# EAGLE library part 1324ПП1 (library microwave)
АЕЯР.431000.760–03 ТУ 1324ПП1 - СВЧ МИС активного широкополосного умножителя частоты на 2 в диапазоне входных рабочих частот до 2,4 ГГц, согласованная по выходу с линией с волновым сопротивлением 50 Ом. Достоинства: ► Диапазон входных частот 0,01-2,4 ГГц ► Диапазон выходных частот 0,02-4,8 ГГц ► Уровень фазовых шумов -136 дБ/Гц ► Однополярное питание +3,3 В ► Ток потребления 1,5 мА ► Диапазон рабочих температур -60…+85 °С Электрические параметры при Uп=+3,3 В, Rн=50 Ом, Т=25 °С, если не указано иного. Параметр, единица измерения Условия 1324ПП1У мин. тип. макс. Диапазон рабочих частот по входу, ГГц Рвх=1мВт(0dBm) 0,3-2,3 0,01-2,4 Диапазон рабочих частот по выходу, ГГц Рвх=1мВт(0dBm) 0,6-4,6 0,02-4,8 Диапазон уровня входной мощности, дБм fвх=2,5 ГГц -12...+6 Уровень фазовых шумов, дБ/Гц отстройка 10 кГц -136 Потери преобразования, дБ fвх=1,3 ГГц 9 15 Подавление гармоник на выходе по отношению к входной мощности, дБ fвх=300 МГц 40 Ток потребления, мА Рвх=-10дБм, fвх=2 ГГц 1,5 2,0 Диапазон рабочих температур, °С -60 +85 Тепловое сопротивление «переход-среда», °С/Вт Корпус 5140.8-АНЗ 100 Производитель: ОАО «НПП «ПУЛЬСАР», г. Москва.
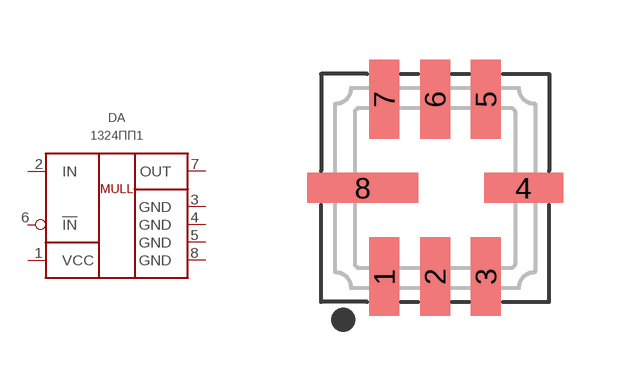
[diagram p15: symbol with the pads of 5140.8-АН3; footprint 5140.8-АН3]

Designator prefix DA

## 1324ПП1У  [5140.8-АН3]
1  VCC  pwr
2  IN  in
3  GND  pwr
4  GND  pwr
5  GND  pwr
6  !IN  in
7  OUT  out
8  GND  pwr

## Footprint 5140.8-АН3 (pad centres in mm)
smd 0.75 x 1.97: 1 -1.27,-2.215; 2 0,-2.215; 3 1.27,-2.215; 5 1.27,2.215; 6 0,2.215; 7 -1.27,2.215
smd 1.97 x 0.75: 4 2.215,0
smd 2.78 x 0.75: 8 -1.81,0